# Altium footprint library Lib_VFD_Clock.PcbLib: 24 footprints (part 1 of 2)
Each footprint in its own frame and in the unit in brackets; x right, y up, seen from the top. Pads: shape width x height; smd on the part's side, far side on the other; paste and mask are expansions set on the pad; w line width, h text height; cw(c..) or ccw(c..) is an arc to the next point about the centre after c.
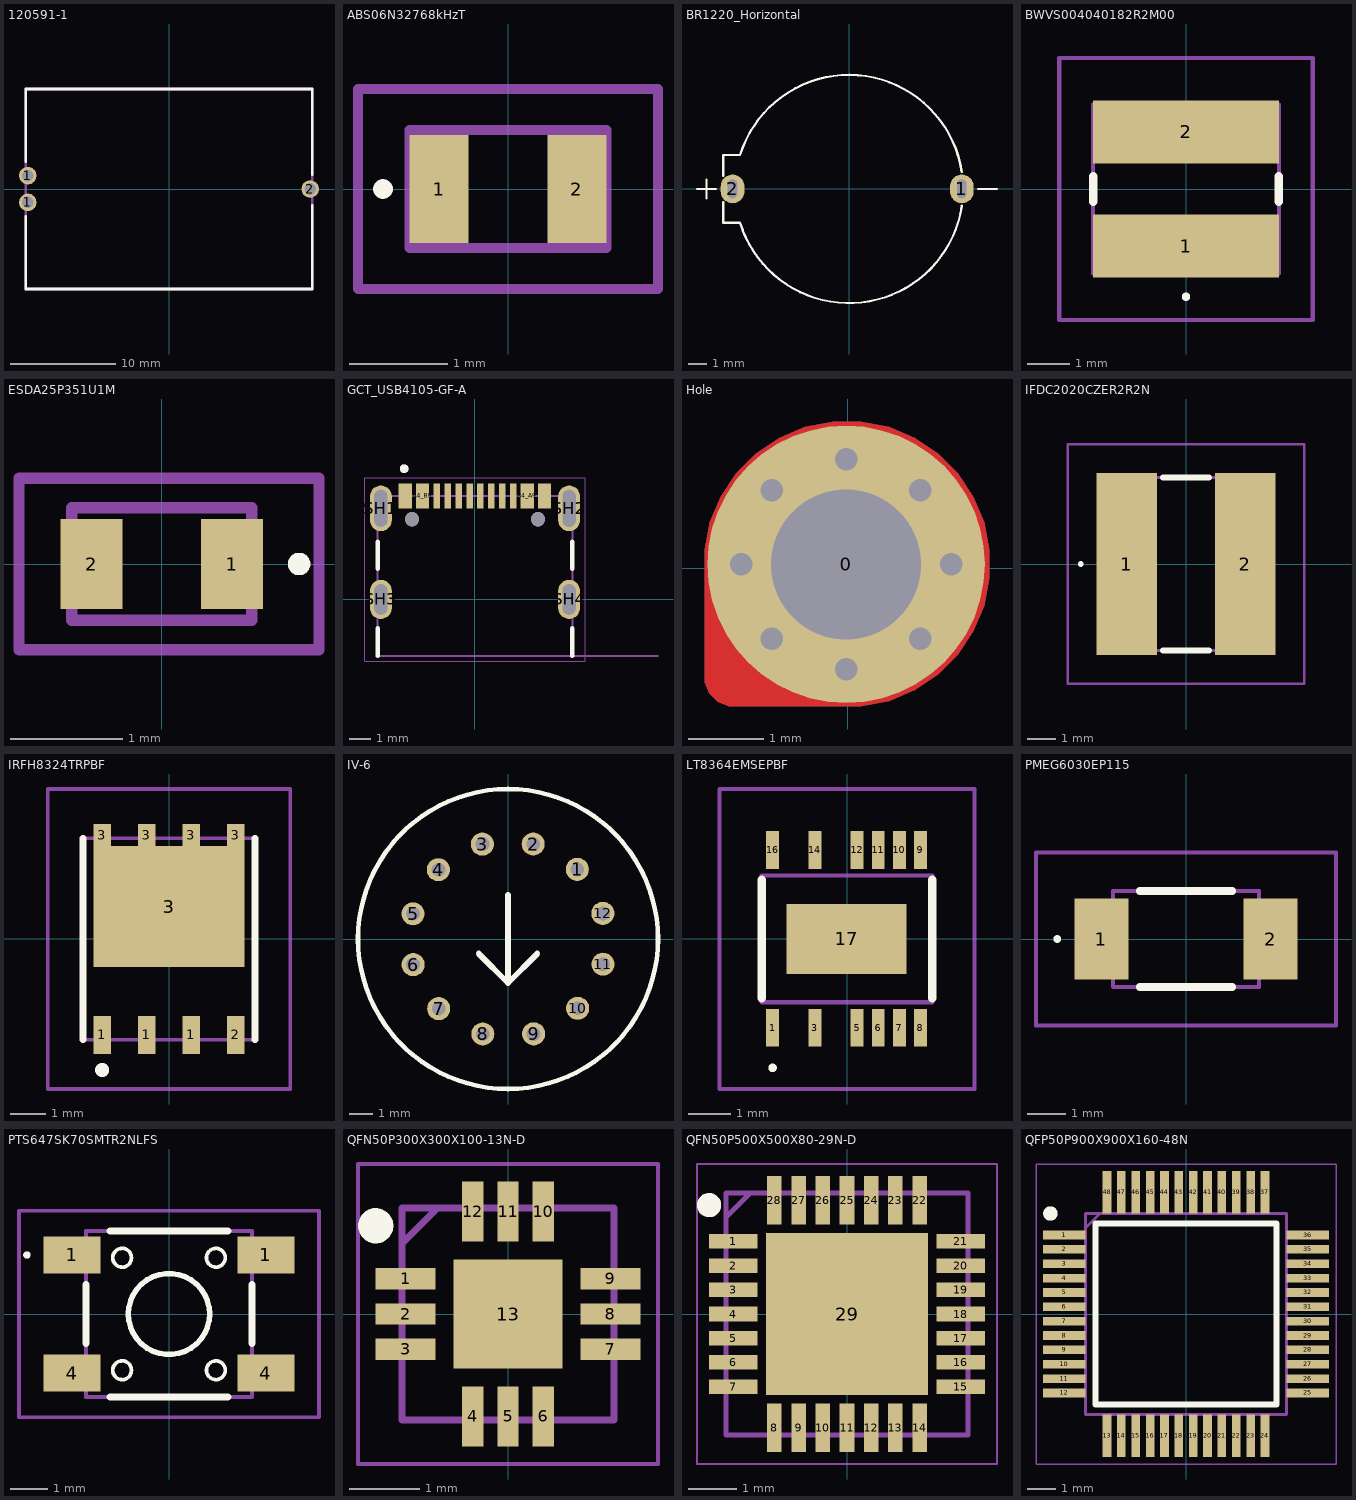
[diagram p0: the footprints below, top view; thin cyan lines are the x and y axes]

## 120591-1 [mm]
pads (3):
  round 1.67 hole 1.12: 1(-13.46,-1.27) 1(-13.46,1.27) 2(13.46,0)
Top Overlay:
  lines w0.254: -13.65,-2.62 -13.65,-9.525 13.65,-9.525 13.65,-1.538 ; -13.65,2.615 -13.65,9.525 13.65,9.525 13.65,1.359
Mechanical 13:
  lines w0.254: -13.65,-9.525 -13.65,9.525 13.65,9.525 13.65,-9.525 -13.65,-9.525
3D body "120591-1.stp": height 6.32, standoff -3.13, extent -13.684,-9.525 13.621,9.525

## ABS06N32768kHzT [mm]
pads (2):
  rect 0.6x1.1 smd: 1(-0.7,0) 2(0.7,0)
Top Overlay:
  circle w0.1: c-1.27,0 r0.05
Mechanical 13:
  lines w0.1: -1,-0.6 1,-0.6 1,0.6 -1,0.6 -1,-0.6
Mechanical 15:
  lines w0.1: -1.524,-1.016 -0.092,-1.016 1.524,-1.016 1.524,1.016 -1.524,1.016 -1.524,-1.016
3D body "ABS06N-32.768kHz-T.stp": height 0.61, standoff 0.01, extent -1.003,-0.607 0.993,0.597

## BR1220_Horizontal [mm]
pads (2):
  rrect100% 1.27x1.524 hole 1 slot 0.5 at 0 deg paste-1.524 mask+0: 1(6,0) 2(-6.2,0)
Top Overlay:
  lines w0.12: -8.094,0 -7.094,0 ; -7.594,-0.5 -7.594,0.5 ; -6.7,-0.7 -6.7,-1.8 -5.8,-1.8 ccw(c-0.002,-0.01) 6,-0.9 ; -6.7,0.7 -6.7,1.8 -5.8,1.8 cw(c-0.003,0.002) 6,0.9 ; 6.874,0 7.874,0
Mechanical 10:
  text "'.Designator'" at -0.458,-2.877 h1

## BWVS004040182R2M00 [mm]
pads (2):
  rect 4.4x1.5 smd: 1(0,-1.35) 2(0,1.35)
Top Overlay:
  lines w0.1: 0,-2.6 ccw(c0,-2.55) 0,-2.5 ccw(c0,-2.55) 0,-2.6
  lines w0.2: -2.2,-0.3 -2.2,0.3 ; 2.2,-0.3 2.2,0.3
Mechanical 13:
  lines w0.1: -2.2,-2 -2.2,2 ; -2,-2 2,-2 ; -2,2 2,2 ; 2.2,-2 2.2,2
Mechanical 15:
  lines w0.1: -3,-3.1 3,-3.1 3,3.1 -3,3.1 -3,-3.1
3D body "BWVS004040182R2M00.stp": height 2.1, standoff 0, extent -2,-2 2,2

## ESDA25P351U1M [mm]
pads (2):
  rect 0.55x0.8 smd: 1(0.625,0) 2(-0.625,0)
Top Overlay:
  lines w0.1: 1.17,0 ccw(c1.22,0) 1.27,0 ccw(c1.22,0) 1.17,0
Mechanical 13:
  lines w0.1: -0.8,-0.5 -0.8,0.5 0.8,0.5 0.8,-0.5 -0.8,-0.5
Mechanical 15:
  lines w0.1: -1.27,-0.762 1.397,-0.762 1.397,0.762 -1.27,0.762 -1.27,-0.762
3D body "ESDA25P35-1U1M.stp": height 0.57, standoff 0, extent -0.8,-0.5 0.8,0.5

## GCT_USB4105-GF-A [mm]
height 3.31
pads (18):
  rect 0.6x1.15 smd mask+0.05: A1_B12(-3.2,4.755) A4_B9(-2.4,4.755) B1_A12(3.2,4.755) B4_A9(2.4,4.755)
  rect 0.3x1.15 smd mask+0.05: A5(-1.25,4.755) A6(-0.25,4.755) A7(0.25,4.755) A8(1.25,4.755) B5(1.75,4.755) B6(0.75,4.755) B7(-0.75,4.755) B8(-1.75,4.755)
  oval 1x2.1 hole 0.6 slot 1.7 at 90 deg: SH1(-4.32,4.18) SH2(4.32,4.18)
  oval 1x1.8 hole 0.6 slot 1.4 at 90 deg: SH3(-4.32,0) SH4(4.32,0)
  round 0.65 hole 0.65 unplated: ""(-2.89,3.68) ""(2.89,3.68)
Top Overlay:
  circle w0.2: c-3.25,6 r0.1
  lines w0.2: -4.47,-2.6 -4.47,-1.32 ; -4.47,1.4 -4.47,2.65 ; 4.47,-2.6 4.47,-1.32 ; 4.47,1.4 4.47,2.65
Mechanical 13:
  circle w0.2: c-3.25,6 r0.1
  lines w0.1: 8.4,-2.6 4.47,-2.6 ; 4.47,-2.6 4.47,4.75 -4.47,4.75 -4.47,-2.6 4.47,-2.6
  text "PCB EDGE" at 5.4,-2.5 h0.41
Mechanical 15:
  lines w0.05: -5.07,-2.85 -5.07,5.58 5.07,5.58 5.07,-2.85 -5.07,-2.85
3D body "USB4105-GF-A.STEP": height 3.31, standoff -1.1, extent -4.47,-2.6 4.47,5.11

## Hole [mm]
pads (1):
  round 3.7 hole 2: 0(-0.025,0.05)
via -0.025,-1.35 diameter 0.65 hole 0.3
via 0.965,-0.94 diameter 0.65 hole 0.3
via -1.015,-0.94 diameter 0.65 hole 0.3
via -1.425,0.05 diameter 0.65 hole 0.3
via 1.375,0.05 diameter 0.65 hole 0.3
via -1.015,1.04 diameter 0.65 hole 0.3
via 0.965,1.04 diameter 0.65 hole 0.3
via -0.025,1.45 diameter 0.65 hole 0.3
Top Layer:
  region: -1.913,0.054 -1.913,0.241 -1.84,0.608 -1.697,0.954 -1.489,1.265 -1.224,1.53 -0.913,1.738 -0.567,1.881 -0.2,1.954 0.174,1.954 0.541,1.881 0.887,1.738 1.198,1.53 1.463,1.265 1.671,0.954 1.814,0.608 1.887,0.241 1.887,-0.133 1.814,-0.5 1.671,-0.846 1.463,-1.157 1.198,-1.422 0.887,-1.63 0.541,-1.773 0.174,-1.846 -0.013,-1.846 -1.513,-1.846 -1.593,-1.846 -1.74,-1.785 -1.852,-1.672 -1.913,-1.525 -1.913,-1.446
Bottom Layer:
  region: -1.913,0.054 -1.913,0.241 -1.84,0.608 -1.697,0.954 -1.489,1.265 -1.224,1.53 -0.913,1.738 -0.567,1.881 -0.2,1.954 0.174,1.954 0.541,1.881 0.887,1.738 1.198,1.53 1.463,1.265 1.671,0.954 1.814,0.608 1.887,0.241 1.887,-0.133 1.814,-0.5 1.671,-0.846 1.463,-1.157 1.198,-1.422 0.887,-1.63 0.541,-1.773 0.174,-1.846 -0.013,-1.846 -1.513,-1.846 -1.593,-1.846 -1.74,-1.785 -1.852,-1.672 -1.913,-1.525 -1.913,-1.446
Top Solder:
  region: -2.013,0.054 -2.013,0.251 -1.936,0.638 -1.786,1.001 -1.567,1.329 -1.288,1.608 -0.96,1.827 -0.597,1.977 -0.21,2.054 0.184,2.054 0.57,1.977 0.934,1.827 1.262,1.608 1.54,1.329 1.759,1.001 1.91,0.638 1.987,0.251 1.987,-0.143 1.91,-0.529 1.759,-0.893 1.54,-1.221 1.262,-1.499 0.934,-1.718 0.57,-1.869 0.184,-1.946 -0.013,-1.946 -1.713,-1.946 -1.773,-1.946 -1.883,-1.9 -1.967,-1.816 -2.013,-1.706 -2.013,-1.646
  lines w0: -2.013,-1.646 ccw(c-1.713,-1.646) -1.713,-1.946 -0.013,-1.946 ccw(c-0.013,0.054) -2.013,0.054 -2.013,-1.646
Bottom Solder:
  region: -2.013,0.054 -2.013,0.251 -1.936,0.638 -1.786,1.001 -1.567,1.329 -1.288,1.608 -0.96,1.827 -0.597,1.977 -0.21,2.054 0.184,2.054 0.57,1.977 0.934,1.827 1.262,1.608 1.54,1.329 1.759,1.001 1.91,0.638 1.987,0.251 1.987,-0.143 1.91,-0.529 1.759,-0.893 1.54,-1.221 1.262,-1.499 0.934,-1.718 0.57,-1.869 0.184,-1.946 -0.013,-1.946 -1.713,-1.946 -1.773,-1.946 -1.883,-1.9 -1.967,-1.816 -2.013,-1.706 -2.013,-1.646

## IFDC2020CZER2R2N [mm]
pads (2):
  rect 2.1x6.3 smd: 1(-2.05,0) 2(2.05,0)
Top Overlay:
  lines w0.1: -3.7,0 cw(c-3.65,0) -3.6,0 cw(c-3.65,0) -3.7,0
  lines w0.2: -0.8,-3 0.8,-3 ; -0.8,3 0.8,3
Mechanical 13:
  lines w0.1: -3,-3 -3,3 3,3 3,-3 -3,-3
Mechanical 15:
  lines w0.1: -4.1,-4.15 -4.1,4.15 4.1,4.15 4.1,-4.15 -4.1,-4.15
3D body "IFDC2020CZER2R2N.stp": height 3, standoff 0, extent -3,-3 3,3

## IRFH8324TRPBF [mm]
pads (9):
  rect 0.5x1.085 smd: 1(-1.905,-2.733) 1(-0.635,-2.733) 1(0.635,-2.733) 2(1.905,-2.733)
  rect 0.5x0.625 smd: 3(-1.905,2.962) 3(-0.635,2.962) 3(0.635,2.962) 3(1.905,2.962)
  rect 4.31x3.45 smd: 3(0,0.924)
Top Overlay:
  lines w0.19: -2.45,-2.875 -2.45,2.875 ; 2.45,-2.875 2.45,2.875
  lines w0.2: -1.905,-3.833 ccw(c-1.905,-3.733) -1.905,-3.633 ccw(c-1.905,-3.733) -1.905,-3.833
Mechanical 13:
  lines w0.1: -2.45,-2.875 2.45,-2.875 2.45,2.875 -2.45,2.875 -2.45,-2.875
Mechanical 15:
  lines w0.1: -3.45,-4.275 3.45,-4.275 3.45,4.274 -3.45,4.274 -3.45,-4.275
3D body "IRFH8324TRPBF.stp": height 1.27, standoff 0, extent -2.45,-3.226 2.45,3.224

## IV-6 [mm] "Vacuum Tube; 9 Leads"
height 66.7
pads (12):
  round 1 hole 0.6: 1(3.003,3.017) 2(1.092,4.115) 3(-1.112,4.11) 4(-3.017,3.003) 5(-4.115,1.092) 6(-4.11,-1.112) 7(-3.003,-3.017) 8(-1.092,-4.115) 9(1.112,-4.11) 10(3.017,-3.003) 11(4.115,-1.092) 12(4.11,1.112)
Top Overlay:
  circle w0.2: c0,0 r6.5
  lines w0.254: -1.27,-0.635 0,-1.905 ; 0,1.905 0,-1.905 ; 1.27,-0.635 0,-1.905

## LT8364EMSEPBF [mm]
pads (13):
  rect 0.305x0.889 smd: 1(-1.761,-2.107) 3(-0.761,-2.107) 5(0.239,-2.107) 6(0.739,-2.107) 7(1.239,-2.107) 8(1.739,-2.107) 9(1.739,2.107) 10(1.239,2.107) 11(0.739,2.107) 12(0.239,2.107) 14(-0.761,2.107) 16(-1.761,2.107)
  rect 2.845x1.651 smd: 17(-0.011,0)
Top Overlay:
  lines w0.1: -1.761,-3.1 cw(c-1.761,-3.05) -1.761,-3 cw(c-1.761,-3.05) -1.761,-3.1
  lines w0.2: -2.019,-1.4 -2.019,1.4 ; 2.019,-1.4 2.019,1.4
Mechanical 13:
  lines w0.1: -2.019,-1.5 -2.019,1.5 2.019,1.5 2.019,-1.5 -2.019,-1.5
Mechanical 15:
  lines w0.1: -3.019,-3.552 -3.019,3.551 3.019,3.551 3.019,-3.552 -3.019,-3.552

## PMEG6030EP115 [mm]
pads (2):
  rect 1.4x2.1 smd: 1(-2.2,0) 2(2.2,0)
Top Overlay:
  lines w0.1: -3.4,0 ccw(c-3.35,0) -3.3,0 ccw(c-3.35,0) -3.4,0
  lines w0.2: -1.2,-1.25 1.2,-1.25 ; -1.2,1.25 1.2,1.25
Mechanical 13:
  lines w0.1: -1.9,-1.25 -1.9,1.25 1.9,1.25 1.9,-1.25 -1.9,-1.25
Mechanical 15:
  lines w0.1: -3.9,-2.25 -3.9,2.25 3.9,2.25 3.9,-2.25 -3.9,-2.25
3D body "PMEG6030EP,115.stp": height 1.07, standoff 0, extent -2.346,-1.305 2.354,1.295

## PTS647SK70SMTR2NLFS [mm]
pads (4):
  rect 1.55x1 smd: 1(-2.625,1.6) 1(2.625,1.6) 4(-2.625,-1.6) 4(2.625,-1.6)
Top Overlay:
  circle w0.15: c0,0 r1.1
  circle w0.1: c-1.27,1.524 r0.254
  circle w0.1: c1.27,1.524 r0.254
  circle w0.1: c1.27,-1.524 r0.254
  circle w0.1: c-1.27,-1.524 r0.254
  lines w0.1: -3.9,1.6 cw(c-3.85,1.6) -3.8,1.6 cw(c-3.85,1.6) -3.9,1.6
  lines w0.2: -2.25,-0.8 -2.25,0.8 ; -1.6,-2.25 1.6,-2.25 ; -1.6,2.25 1.6,2.25 ; 2.25,-0.8 2.25,0.8
Mechanical 13:
  lines w0.1: -2.25,-2.25 2.25,-2.25 2.25,2.25 -2.25,2.25 -2.25,-2.25
Mechanical 15:
  lines w0.1: -4.064,-2.794 4.064,-2.794 4.064,2.794 -4.064,2.794 -4.064,-2.794
3D body "PTS647SK70SMTR2N_LFS.stp": height 7, standoff 0, extent -3.25,-2.25 3.25,2.25

## QFN50P300X300X100-13N-D [mm]
pads (13):
  rect 0.85x0.3 smd: 1(-1.45,0.5) 2(-1.45,0) 3(-1.45,-0.5) 7(1.45,-0.5) 8(1.45,0) 9(1.45,0.5)
  rect 0.3x0.85 smd: 4(-0.5,-1.45) 5(0,-1.45) 6(0.5,-1.45) 10(0.5,1.45) 11(0,1.45) 12(-0.5,1.45)
  rect 1.55x1.55 smd: 13(0,0)
Top Overlay:
  circle w0.25: c-1.875,1.25 r0.125
Mechanical 13:
  lines w0.1: -1.5,1 -1,1.5 ; -1.5,-1.5 1.5,-1.5 1.5,1.5 -1.5,1.5 -1.5,-1.5
Mechanical 15:
  lines w0.05: -2.125,-2.125 2.125,-2.125 2.125,2.125 -2.125,2.125 -2.125,-2.125
3D body "TCPP01-M12.stp": height 1, standoff 0, extent -1.55,-1.55 1.55,1.55

## QFN50P500X500X80-29N-D [mm]
pads (29):
  rect 1x0.3 smd: 1(-2.35,1.5) 2(-2.35,1) 3(-2.35,0.5) 4(-2.35,0) 5(-2.35,-0.5) 6(-2.35,-1) 7(-2.35,-1.5) 15(2.35,-1.5) 16(2.35,-1) 17(2.35,-0.5) 18(2.35,0) 19(2.35,0.5) 20(2.35,1) 21(2.35,1.5)
  rect 0.3x1 smd: 8(-1.5,-2.35) 9(-1,-2.35) 10(-0.5,-2.35) 11(0,-2.35) 12(0.5,-2.35) 13(1,-2.35) 14(1.5,-2.35) 22(1.5,2.35) 23(1,2.35) 24(0.5,2.35) 25(0,2.35) 26(-0.5,2.35) 27(-1,2.35) 28(-1.5,2.35)
  rect 3.35x3.35 smd: 29(0,0)
Top Overlay:
  circle w0.25: c-2.85,2.25 r0.125
Mechanical 13:
  lines w0.1: -2.5,2 -2,2.5 ; -2.5,-2.5 2.5,-2.5 2.5,2.5 -2.5,2.5 -2.5,-2.5
Mechanical 15:
  lines w0.05: -3.1,-3.1 3.1,-3.1 3.1,3.1 -3.1,3.1 -3.1,-3.1
3D body "CP2102N-A02-GQFN28R.stp": height 0.8, standoff 0, extent -2.55,-2.55 2.55,2.55

## QFP50P900X900X160-48N [mm]
pads (48):
  rect 1.475x0.3 smd: 1(-4.238,2.75) 2(-4.238,2.25) 3(-4.238,1.75) 4(-4.238,1.25) 5(-4.238,0.75) 6(-4.238,0.25) 7(-4.238,-0.25) 8(-4.238,-0.75) 9(-4.238,-1.25) 10(-4.238,-1.75) 11(-4.238,-2.25) 12(-4.238,-2.75) 25(4.238,-2.75) 26(4.238,-2.25) 27(4.238,-1.75) 28(4.238,-1.25) 29(4.238,-0.75) 30(4.238,-0.25) 31(4.238,0.25) 32(4.238,0.75) 33(4.238,1.25) 34(4.238,1.75) 35(4.238,2.25) 36(4.238,2.75)
  rect 0.3x1.475 smd: 13(-2.75,-4.238) 14(-2.25,-4.238) 15(-1.75,-4.238) 16(-1.25,-4.238) 17(-0.75,-4.238) 18(-0.25,-4.238) 19(0.25,-4.238) 20(0.75,-4.238) 21(1.25,-4.238) 22(1.75,-4.238) 23(2.25,-4.238) 24(2.75,-4.238) 37(2.75,4.238) 38(2.25,4.238) 39(1.75,4.238) 40(1.25,4.238) 41(0.75,4.238) 42(0.25,4.238) 43(-0.25,4.238) 44(-0.75,4.238) 45(-1.25,4.238) 46(-1.75,4.238) 47(-2.25,4.238) 48(-2.75,4.238)
Top Overlay:
  circle w0.25: c-4.725,3.5 r0.125
  lines w0.2: -3.15,-3.15 -3.15,3.15 3.15,3.15 3.15,-3.15 -3.15,-3.15
Mechanical 13:
  lines w0.1: -3.5,3 -3,3.5 ; -3.5,-3.5 -3.5,3.5 3.5,3.5 3.5,-3.5 -3.5,-3.5
Mechanical 15:
  lines w0.05: -5.225,-5.225 -5.225,5.225 5.225,5.225 5.225,-5.225 -5.225,-5.225
3D body "STM32G071C8T6.stp": height 1.6, standoff 0, extent -4.5,-4.5 4.5,4.5